# Altium footprint library X-FREE_2053-01(LGA8).PcbLib: 1 footprints
Each footprint in its own frame and in the unit in brackets; x right, y up, seen from the top. Pads: shape width x height; smd on the part's side, far side on the other; paste and mask are expansions set on the pad; w line width, h text height; cw(c..) or ccw(c..) is an arc to the next point about the centre after c.
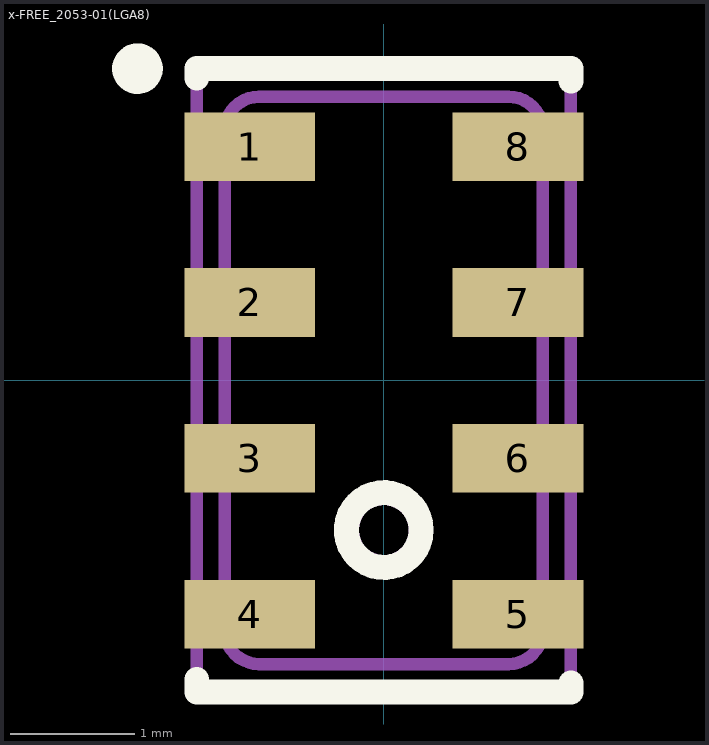
[diagram p0: the footprint, top view; thin cyan lines are the x and y axes]

## x-FREE_2053-01(LGA8) [mm] "Case 2053-01, Issue O, LGA Package"
height 1.2
pads (8):
  rect 1.05x0.55 smd mask+0.1: 1(-1.075,1.875) 2(-1.075,0.625) 3(-1.075,-0.625) 4(-1.075,-1.875) 5(1.075,-1.875) 6(1.075,-0.625) 7(1.075,0.625) 8(1.075,1.875)
Top Overlay:
  circle w0.2: c0,-1.2 r0.3
  circle w0.2: c-1.975,2.5 r0.103
  lines w0.2: -1.5,-2.4 -1.5,-2.5 1.5,-2.5 1.5,-2.425 ; -1.5,2.425 -1.5,2.5 1.5,2.5 1.5,2.4
Mechanical 13:
  circle w0.1: c0,-1.2 r0.25
  lines w0.1: -1.5,-2.5 -1.5,2.5 1.5,2.5 1.5,-2.5 -1.5,-2.5 ; -1.275,-2 ccw(c-1,-2) -1,-2.275 0,-2.275 1,-2.275 ccw(c1,-2) 1.275,-2 1.275,0 1.275,2 ccw(c1,2) 1,2.275 0,2.275 -1,2.275 ccw(c-1,2) -1.275,2 -1.275,0 -1.275,-2
3D body: height 0.2, standoff 0, extent -1.499,-2.499 1.499,2.499
3D body: height 1.1, standoff 0.2, extent -1.28,-2.28 1.28,2.28
3D body: height 1.11, standoff 0, extent -0.254,-1.454 0.254,-0.946